# Altium schematic symbol library SCH - INTERFACE - AD ADV7340_1.SCHLIB: 1 symbol
Pins are listed as number, name and electrical type; pins without a type are passive.

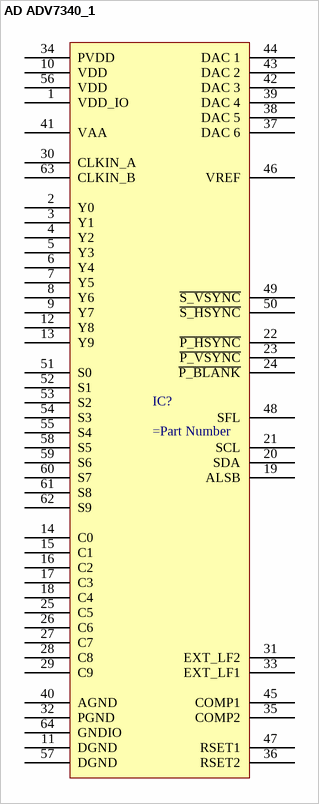
[diagram p0: symbol AD ADV7340_1]

## AD ADV7340_1
designator IC?
pins: 1 VDD_IO, 2 Y0, 3 Y1, 4 Y2, 5 Y3, 6 Y4, 7 Y5, 8 Y6, 9 Y7, 10 VDD, 11 DGND, 12 Y8, 13 Y9, 14 C0, 15 C1, 16 C2, 17 C3, 18 C4, 19 ALSB, 20 SDA, 21 SCL, 22 ~{P_HSYNC}, 23 ~{P_VSYNC}, 24 ~{P_BLANK}, 25 C5, 26 C6, 27 C7, 28 C8, 29 C9, 30 CLKIN_A, 31 EXT_LF2, 32 PGND, 33 EXT_LF1, 34 PVDD, 35 COMP2, 36 RSET2, 37 DAC 6, 38 DAC 5, 39 DAC 4, 40 AGND, 41 VAA, 42 DAC 3, 43 DAC 2, 44 DAC 1, 45 COMP1, 46 VREF, 47 RSET1, 48 SFL, 49 ~{S_VSYNC}, 50 ~{S_HSYNC}, 51 S0, 52 S1, 53 S2, 54 S3, 55 S4, 56 VDD, 57 DGND, 58 S5, 59 S6, 60 S7, 61 S8, 62 S9, 63 CLKIN_B, 64 GNDIO